# EAGLE library part NCP45521IMNTWG-H (library TPS55288RPMR)
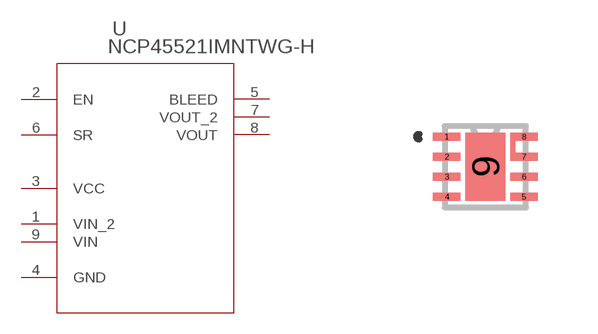
[diagram p1: symbol with the pads of DFN8_2X2_ONS; footprint DFN8_2X2_ONS]

Designator prefix U

## NCP45521IMNTWG-H (BUILT_BY: EMA_Cory; COPYRIGHT: Copyright (C) 2018 Accelerated Designs. All rights reserved; DATASHEET: https://www.onsemi.com/pub/Collateral/NCP45520-D.PDF; MANUFACTURER_PART_NUMBER: NCP45521IMNTWG-L; SOURCELIBRARY: ON_Semiconductor_2020-03-23; VENDOR: ON Semiconductor)  [DFN8_2X2_ONS]
1  VIN_2  pwr
2  EN  in
3  VCC  pwr
4  GND  pas
5  BLEED  out
6  SR  pas
7  VOUT_2  out
8  VOUT  out
9  VIN  pwr

## Footprint DFN8_2X2_ONS (pad centres in mm)
smd 0.686 x 0.203: 1 -0.965,0.75; 2 -0.965,0.25; 3 -0.965,-0.25; 4 -0.965,-0.75; 5 0.965,-0.75; 6 0.965,-0.25; 7 0.965,0.25; 8 0.965,0.75
smd 0.991 x 1.702: 9 0,0